# Altium schematic symbol library SCH - DRAM - MICRON MT41K256M16TW-107P.SchLib: 1 symbol
Pins are listed as number, name and electrical type; pins without a type are passive.

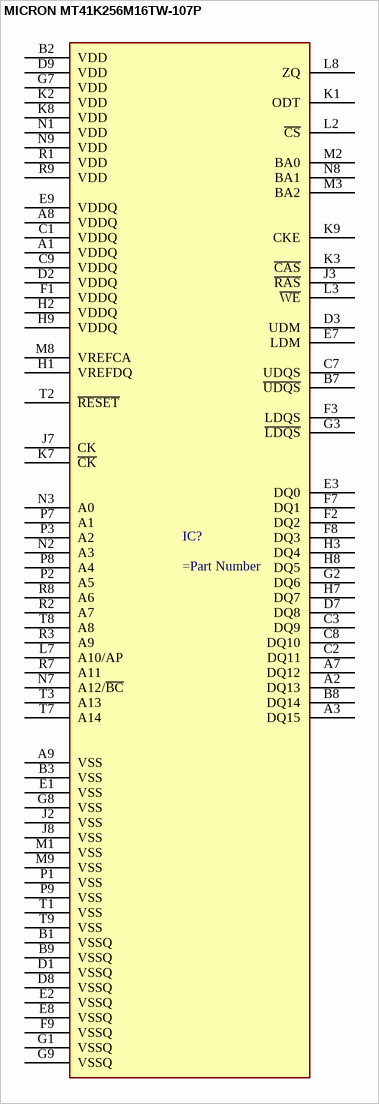
[diagram p0: symbol MICRON MT41K256M16TW-107P]

## MICRON MT41K256M16TW-107P
designator IC?
MF: {'manufacturer': u'Micron Technology Inc.'}; MP: MT41K256M16TW-107:P; Package: None; Price: None; Value: *; Availability: Unavailable
footprint BGA96C80P9X16_1400X800X120
pins: A1 VDDQ, A2 DQ13, A3 DQ15, A7 DQ12, A8 VDDQ, A9 VSS, B1 VSSQ, B2 VDD, B3 VSS, B7 ~{UDQS}, B8 DQ14, B9 VSSQ, C1 VDDQ, C2 DQ11, C3 DQ9, C7 UDQS, C8 DQ10, C9 VDDQ, D1 VSSQ, D2 VDDQ, D3 UDM, D7 DQ8, D8 VSSQ, D9 VDD, E1 VSS, E2 VSSQ, E3 DQ0, E7 LDM, E8 VSSQ, E9 VDDQ, F1 VDDQ, F2 DQ2, F3 LDQS, F7 DQ1, F8 DQ3, F9 VSSQ, G1 VSSQ, G2 DQ6, G3 ~{LDQS}, G7 VDD, G8 VSS, G9 VSSQ, H1 VREFDQ, H2 VDDQ, H3 DQ4, H7 DQ7, H8 DQ5, H9 VDDQ, J2 VSS, J3 ~{RAS}, J7 CK, J8 VSS, K1 ODT, K2 VDD, K3 ~{CAS}, K7 ~{CK}, K8 VDD, K9 CKE, L2 ~{CS}, L3 ~{WE}, L7 A10/AP, L8 ZQ, M1 VSS, M2 BA0, M3 BA2, M8 VREFCA, M9 VSS, N1 VDD, N2 A3, N3 A0, N7 A12/~{BC}, N8 BA1, N9 VDD, P1 VSS, P2 A5, P3 A2, P7 A1, P8 A4, P9 VSS, R1 VDD, R2 A7, R3 A9, R7 A11, R8 A6, R9 VDD, T1 VSS, T2 ~{RESET}, T3 A13, T7 A14, T8 A8, T9 VSS